# Altium footprint library AMC1100 pcb.PcbLib: 1 footprints
Each footprint in its own frame and in the unit in brackets; x right, y up, seen from the top. Pads: shape width x height; smd on the part's side, far side on the other; paste and mask are expansions set on the pad; w line width, h text height; cw(c..) or ccw(c..) is an arc to the next point about the centre after c.
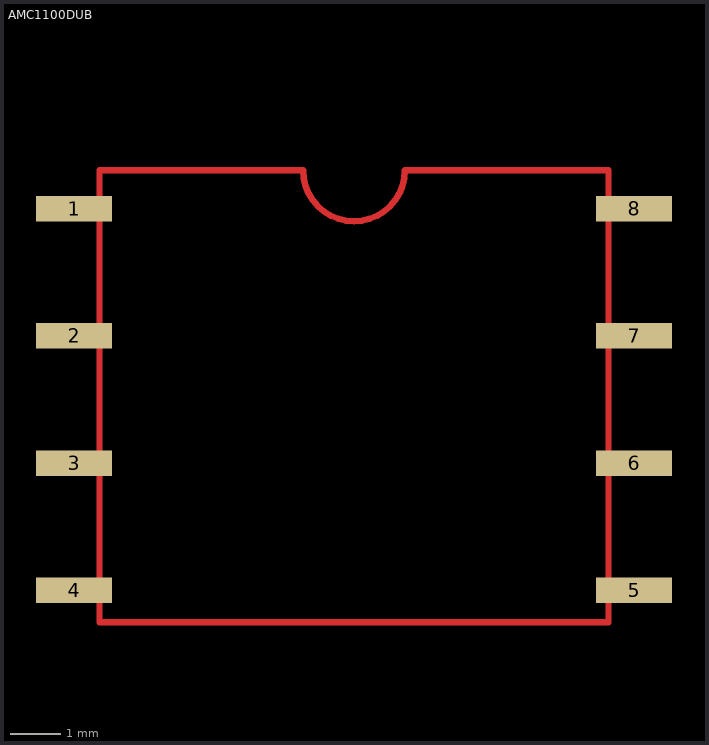
[diagram p0: the footprint, top view; thin cyan lines are the x and y axes]

## AMC1100DUB [mil] "IC OPAMP ISOLATION 100KHZ 8SOP footprint"
pads (8):
  rect 60x20 all layers, no hole: 1(-48260,-47645) 2(-48260,-47745) 3(-48260,-47845) 4(-48260,-47945) 5(-47820,-47945) 6(-47820,-47845) 7(-47820,-47745) 8(-47820,-47645)
Top Layer:
  lines w5: -48240,-47970 -47840,-47970 -47840,-47615 -48000,-47615 cw(c-48040,-47615) -48040,-47655 cw(c-48040,-47615) -48080,-47615 -48240,-47615 -48240,-47970
3D body: height 139.46, standoff -5.42, extent -48240.11,-47975.12 -47829.89,-47614.88